# EAGLE library part SRAM_64KX8_W24512AK-15 (library 07-Retrocomputing)
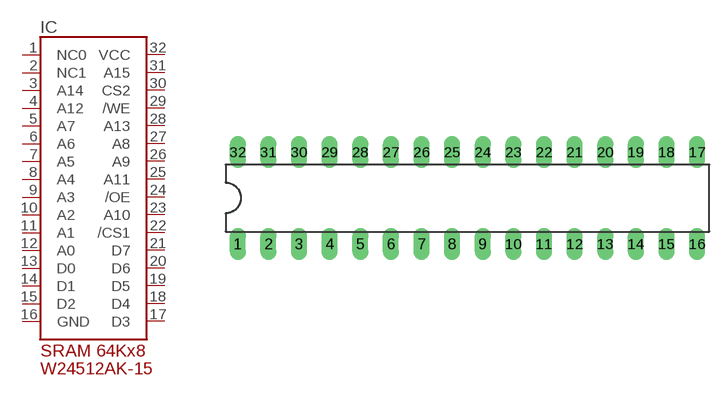
[diagram p8: symbol with the pads of DIL32-3; footprint DIL32-3]

Designator prefix IC

## SRAM_64KX8_W24512AK-15  [DIL32-3]
1  NC0
2  NC1
3  A14
4  A12
5  A7
6  A6
7  A5
8  A4
9  A3
10  A2
11  A1
12  A0
13  D0
14  D1
15  D2
16  GND
17  D3
18  D4
19  D5
20  D6
21  D7
22  /CS1
23  A10
24  /OE
25  A11
26  A9
27  A8
28  A13
29  /WE
30  CS2
31  A15
32  VCC

## Footprint DIL32-3 (pad centres in mm)
Dual In Line
drill 0.813 long: 1 -19.05,-3.81; 2 -16.51,-3.81; 3 -13.97,-3.81; 4 -11.43,-3.81; 5 -8.89,-3.81; 6 -6.35,-3.81; 7 -3.81,-3.81; 8 -1.27,-3.81; 9 1.27,-3.81; 10 3.81,-3.81; 11 6.35,-3.81; 12 8.89,-3.81; 13 11.43,-3.81; 14 13.97,-3.81; 15 16.51,-3.81; 16 19.05,-3.81; 17 19.05,3.81; 18 16.51,3.81; 19 13.97,3.81; 20 11.43,3.81; 21 8.89,3.81; 22 6.35,3.81; 23 3.81,3.81; 24 1.27,3.81; 25 -1.27,3.81; 26 -3.81,3.81; 27 -6.35,3.81; 28 -8.89,3.81; 29 -11.43,3.81; 30 -13.97,3.81; 31 -16.51,3.81; 32 -19.05,3.81